# EAGLE library part MIKROBUS (library MikroBUS_baruc)
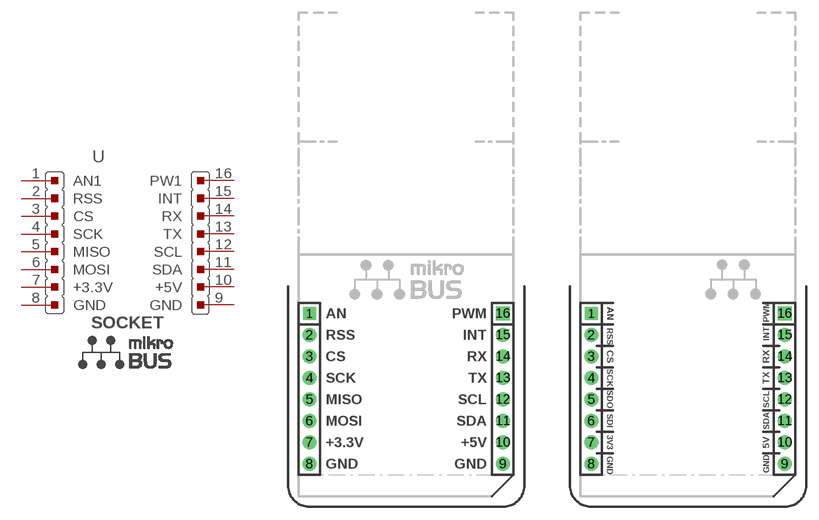
[diagram p1: symbol with the pads of MIKROBUS; footprints MIKROBUS, MIKROBUS_MINI]

Designator prefix -

## MIKROBUS  [MIKROBUS]
1  AN1
2  RSS
3  CS
4  SCK
5  MISO
6  MOSI
7  +3.3V  pas
8  GND  pas
9  GND  pas
10  +5V  pas
11  SDA
12  SCL
13  TX
14  RX
15  INT
16  PW1

## MIKROBUSMINI  [MIKROBUS_MINI]
Pads as for MIKROBUS

## Footprint MIKROBUS (pad centres in mm)
drill 1.016 square: 1 1.27,21.59
drill 1.016 pad 1.676: 2 1.27,19.05; 3 1.27,16.51; 4 1.27,13.97; 5 1.27,11.43; 6 1.27,8.89; 7 1.27,6.35; 8 1.27,3.81; 9 24.13,3.81; 10 24.13,6.35; 11 24.13,8.89; 12 24.13,11.43; 13 24.13,13.97; 14 24.13,16.51; 15 24.13,19.05
drill 1.016 pad 1.676 square: 16 24.13,21.59

## Footprint MIKROBUS_MINI (pad centres in mm)
drill 1.016 square: 1 1.27,21.59
drill 1.016 pad 1.676: 2 1.27,19.05; 3 1.27,16.51; 4 1.27,13.97; 5 1.27,11.43; 6 1.27,8.89; 7 1.27,6.35; 8 1.27,3.81; 9 24.13,3.81; 10 24.13,6.35; 11 24.13,8.89; 12 24.13,11.43; 13 24.13,13.97; 14 24.13,16.51; 15 24.13,19.05
drill 1.016 pad 1.676 square: 16 24.13,21.59